# EAGLE library part 61006421121 (library Wurth_Elektronik2)
WR-PHD 2.54mm Dual SMT Pin Header, 64 Pins =>Code : Con_BTB_PHD_2.54_2_61006421121 <http://katalog.we-online.de/media/images/eican/Con_BTB_PHD_2.54_2_6100xx21121_pf2.jpg> Details see: http://katalog.we-online.de/en/em/610_0xx_211_21 Created 2014-05-29, Karrer Zheng 2014 (C) Würth Elektronik
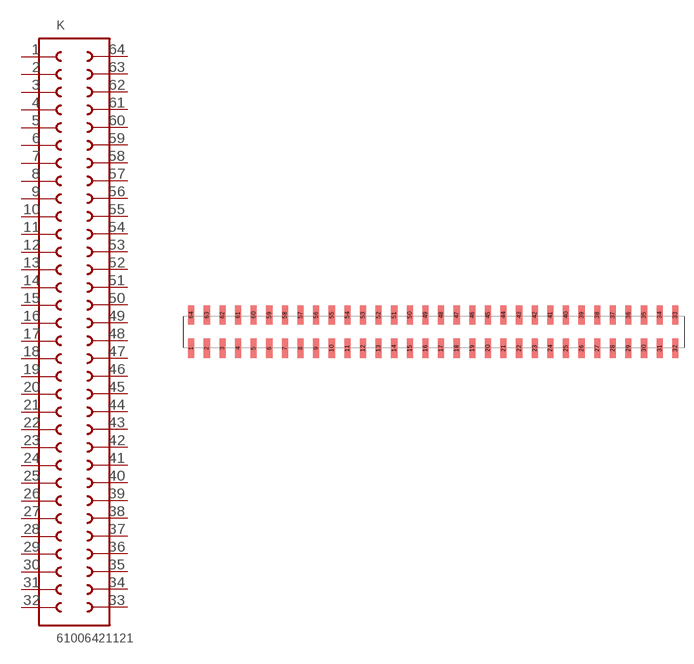
[diagram p88: symbol with the pads of 61006421121; footprint 61006421121]

Designator prefix K

## 61006421121  [61006421121]
1  1  pas
2  2  pas
3  3  pas
4  4  pas
5  5  pas
6  6  pas
7  7  pas
8  8  pas
9  9  pas
10  10  pas
11  11  pas
12  12  pas
13  13  pas
14  14  pas
15  15  pas
16  16  pas
17  17  pas
18  18  pas
19  19  pas
20  20  pas
21  21  pas
22  22  pas
23  23  pas
24  24  pas
25  25  pas
26  26  pas
27  27  pas
28  28  pas
29  29  pas
30  30  pas
31  31  pas
32  32  pas
33  33  pas
34  34  pas
35  35  pas
36  36  pas
37  37  pas
38  38  pas
39  39  pas
40  40  pas
41  41  pas
42  42  pas
43  43  pas
44  44  pas
45  45  pas
46  46  pas
47  47  pas
48  48  pas
49  49  pas
50  50  pas
51  51  pas
52  52  pas
53  53  pas
54  54  pas
55  55  pas
56  56  pas
57  57  pas
58  58  pas
59  59  pas
60  60  pas
61  61  pas
62  62  pas
63  63  pas
64  64  pas

## Footprint 61006421121 (pad centres in mm)
WR-PHD 2.54mm Dual SMT Pin Header, 64 Pins
smd 1 x 3.1: 1 -39.37,-2.7; 2 -36.83,-2.7; 3 -34.29,-2.7; 4 -31.75,-2.7; 5 -29.21,-2.7; 6 -26.67,-2.7; 7 -24.13,-2.7; 8 -21.59,-2.7; 9 -19.05,-2.7; 10 -16.51,-2.7; 11 -13.97,-2.7; 12 -11.43,-2.7; 13 -8.89,-2.7; 14 -6.35,-2.7; 15 -3.81,-2.7; 16 -1.27,-2.7; 17 1.27,-2.7; 18 3.81,-2.7; 19 6.35,-2.7; 20 8.89,-2.7; 21 11.43,-2.7; 22 13.97,-2.7; 23 16.51,-2.7; 24 19.05,-2.7; 25 21.59,-2.7; 26 24.13,-2.7; 27 26.67,-2.7; 28 29.21,-2.7; 29 31.75,-2.7; 30 34.29,-2.7; 31 36.83,-2.7; 32 39.37,-2.7; 33 39.37,2.7; 34 36.83,2.7; 35 34.29,2.7; 36 31.75,2.7; 37 29.21,2.7; 38 26.67,2.7; 39 24.13,2.7; 40 21.59,2.7; 41 19.05,2.7; 42 16.51,2.7; 43 13.97,2.7; 44 11.43,2.7; 45 8.89,2.7; 46 6.35,2.7; 47 3.81,2.7; 48 1.27,2.7; 49 -1.27,2.7; 50 -3.81,2.7; 51 -6.35,2.7; 52 -8.89,2.7; 53 -11.43,2.7; 54 -13.97,2.7; 55 -16.51,2.7; 56 -19.05,2.7; 57 -21.59,2.7; 58 -24.13,2.7; 59 -26.67,2.7; 60 -29.21,2.7; 61 -31.75,2.7; 62 -34.29,2.7; 63 -36.83,2.7; 64 -39.37,2.7